# Altium footprint library 2019-10-24_23-28-57.PcbLib: 1 footprints
Each footprint in its own frame and in the unit in brackets; x right, y up, seen from the top. Pads: shape width x height; smd on the part's side, far side on the other; paste and mask are expansions set on the pad; w line width, h text height; cw(c..) or ccw(c..) is an arc to the next point about the centre after c.
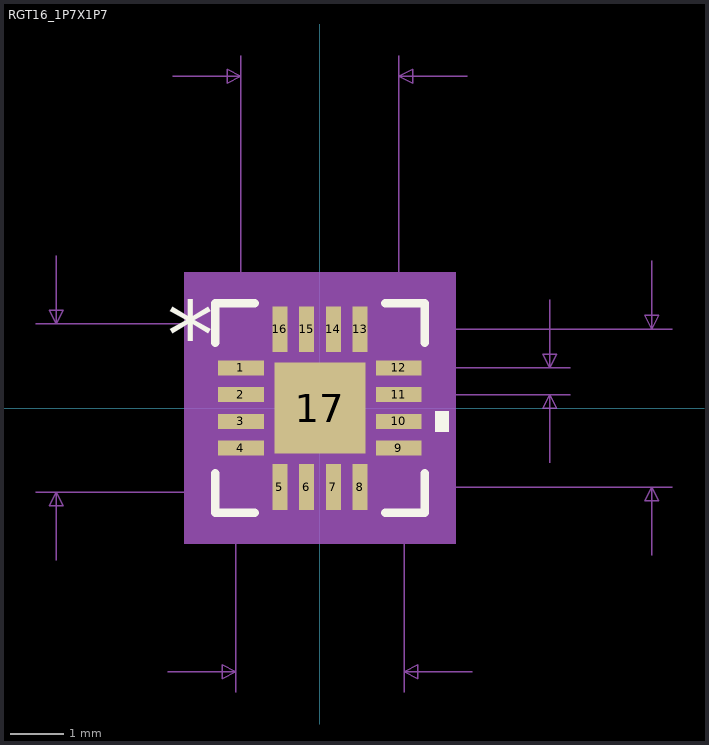
[diagram p0: the footprint, top view; thin cyan lines are the x and y axes]

## RGT16_1P7X1P7 [mm]
pads (17):
  rect 0.85x0.28 smd paste-0.14 mask+0: 1(-1.475,0.75) 2(-1.475,0.25) 3(-1.475,-0.25) 4(-1.475,-0.75) 9(1.475,-0.75) 10(1.475,-0.25) 11(1.475,0.25) 12(1.475,0.75)
  rect 0.28x0.85 smd paste-0.14 mask+0: 5(-0.75,-1.475) 6(-0.25,-1.475) 7(0.25,-1.475) 8(0.75,-1.475) 13(0.75,1.475) 14(0.25,1.475) 15(-0.25,1.475) 16(-0.75,1.475)
  rect 1.7x1.7 smd paste-0.837 mask-0.838: 17(0,0)
Top Overlay:
  region: 2.154,-0.059 2.408,-0.059 2.408,-0.44 2.154,-0.44
  lines w0.152: -1.956,-1.218 -1.956,-1.956 -1.218,-1.956 ; -1.956,1.218 -1.956,1.956 -1.218,1.956 ; 1.218,-1.956 1.956,-1.956 1.956,-1.218 ; 1.218,1.956 1.956,1.956 1.956,1.218
  text "*" at -2.852,0.746 h1.27
Top Paste:
  region: -1.075,0.865 -1.875,0.865 -1.875,0.635 -1.075,0.635
  region: -1.075,0.365 -1.875,0.365 -1.875,0.135 -1.075,0.135
  region: -1.075,-0.135 -1.875,-0.135 -1.875,-0.365 -1.075,-0.365
  region: -1.075,-0.635 -1.875,-0.635 -1.875,-0.865 -1.075,-0.865
  region: -0.635,-1.075 -0.865,-1.075 -0.865,-1.875 -0.635,-1.875
  region: -0.135,-1.075 -0.365,-1.075 -0.365,-1.875 -0.135,-1.875
  region: 0.365,-1.075 0.135,-1.075 0.135,-1.875 0.365,-1.875
  region: 0.865,-1.075 0.635,-1.075 0.635,-1.875 0.865,-1.875
  region: 1.875,-0.635 1.075,-0.635 1.075,-0.865 1.875,-0.865
  region: 1.875,-0.135 1.075,-0.135 1.075,-0.365 1.875,-0.365
  region: 1.875,0.365 1.075,0.365 1.075,0.135 1.875,0.135
  region: 1.875,0.865 1.075,0.865 1.075,0.635 1.875,0.635
  region: 0.865,1.875 0.635,1.875 0.635,1.075 0.865,1.075
  region: 0.365,1.875 0.135,1.875 0.135,1.075 0.365,1.075
  region: -0.135,1.875 -0.365,1.875 -0.365,1.075 -0.135,1.075
  region: -0.635,1.875 -0.865,1.875 -0.865,1.075 -0.635,1.075
  region: -0.494,0.775 -0.775,0.775 -0.775,0.494 -0.635,0.494 -0.494,0.635
  region: -0.635,0.294 -0.775,0.294 -0.775,-0.294 -0.635,-0.294 -0.494,-0.152 -0.494,0.152
  region: -0.635,-0.494 -0.775,-0.494 -0.775,-0.775 -0.494,-0.775 -0.494,-0.635
  region: 0.294,0.775 -0.294,0.775 -0.294,0.635 -0.152,0.494 0.152,0.494 0.294,0.635
  region: 0.152,0.294 -0.152,0.294 -0.294,0.152 -0.294,-0.152 -0.152,-0.294 0.152,-0.294 0.294,-0.152 0.294,0.152
  region: 0.152,-0.494 -0.152,-0.494 -0.294,-0.635 -0.294,-0.775 0.294,-0.775 0.294,-0.635
  region: 0.775,0.775 0.494,0.775 0.494,0.635 0.635,0.494 0.775,0.494
  region: 0.775,0.294 0.635,0.294 0.494,0.152 0.494,-0.152 0.635,-0.294 0.775,-0.294
  region: 0.775,-0.494 0.635,-0.494 0.494,-0.635 0.494,-0.775 0.775,-0.775
Top Solder:
  region: -0.98,0.96 -1.97,0.96 -1.97,0.54 -0.98,0.54
  region: -0.98,0.46 -1.97,0.46 -1.97,0.04 -0.98,0.04
  region: -0.98,-0.04 -1.97,-0.04 -1.97,-0.46 -0.98,-0.46
  region: -0.98,-0.54 -1.97,-0.54 -1.97,-0.96 -0.98,-0.96
  region: -0.541,-0.98 -0.96,-0.98 -0.96,-1.97 -0.541,-1.97
  region: -0.04,-0.98 -0.46,-0.98 -0.46,-1.97 -0.04,-1.97
  region: 0.46,-0.98 0.04,-0.98 0.04,-1.97 0.46,-1.97
  region: 0.96,-0.98 0.541,-0.98 0.541,-1.97 0.96,-1.97
  region: 1.97,-0.54 0.98,-0.54 0.98,-0.96 1.97,-0.96
  region: 1.97,-0.04 0.98,-0.04 0.98,-0.46 1.97,-0.46
  region: 1.97,0.46 0.98,0.46 0.98,0.04 1.97,0.04
  region: 1.97,0.96 0.98,0.96 0.98,0.54 1.97,0.54
  region: 0.96,1.97 0.541,1.97 0.541,0.98 0.96,0.98
  region: 0.46,1.97 0.04,1.97 0.04,0.98 0.46,0.98
  region: -0.04,1.97 -0.46,1.97 -0.46,0.98 -0.04,0.98
  region: -0.541,1.97 -0.96,1.97 -0.96,0.98 -0.541,0.98
  region: -0.914,0.594 -0.914,0.914 0.914,0.914 0.914,0.594
  region: -0.914,-0.194 -0.914,0.194 0.914,0.194 0.914,-0.194
  region: -0.914,-0.914 -0.914,-0.594 0.914,-0.594 0.914,-0.914
  region: -0.914,-0.914 -0.914,0.914 -0.594,0.914 -0.594,-0.914
  region: 0.194,-0.914 0.194,0.914 -0.194,0.914 -0.194,-0.914
  region: 0.594,-0.914 0.594,0.914 0.914,0.914 0.914,-0.914
Mechanical 5:
  region: 2.535,-2.535 -2.535,-2.535 -2.535,2.535 2.535,2.535
Mechanical 7:
  lines w0.025: -5.306,-1.575 1.575,-1.575 ; -5.306,1.575 1.575,1.575 1.575,-5.306 ; -4.925,-2.845 -4.925,-1.575 ; -4.925,2.845 -4.925,1.575 ; -2.845,-4.925 -1.575,-4.925 ; -2.745,6.195 -1.475,6.195 ; -1.575,-5.306 -1.575,1.575 ; -1.475,0.75 -1.475,6.576 ; 0.75,-1.475 6.576,-1.475 ; 0.75,1.475 6.576,1.475 ; 1.475,0.25 4.671,0.25 ; 1.475,6.576 1.475,0.75 4.671,0.75 ; 2.745,6.195 1.475,6.195 ; 2.845,-4.925 1.575,-4.925 ; 4.29,-1.02 4.29,0.25 ; 4.29,2.02 4.29,0.75 ; 6.195,-2.745 6.195,-1.475 ; 6.195,2.745 6.195,1.475 ; -4.925,-1.575 -5.052,-1.829 -4.798,-1.829 -4.925,-1.575 ; -4.925,1.575 -5.052,1.829 -4.798,1.829 -4.925,1.575 ; -1.575,-4.925 -1.829,-4.798 -1.829,-5.052 -1.575,-4.925 ; -1.475,6.195 -1.729,6.322 -1.729,6.068 -1.475,6.195 ; 1.475,6.195 1.729,6.322 1.729,6.068 1.475,6.195 ; 1.575,-4.925 1.829,-4.798 1.829,-5.052 1.575,-4.925 ; 4.29,0.25 4.163,-0.004 4.417,-0.004 4.29,0.25 ; 4.29,0.75 4.163,1.004 4.417,1.004 4.29,0.75 ; 6.195,-1.475 6.068,-1.729 6.322,-1.729 6.195,-1.475 ; 6.195,1.475 6.068,1.729 6.322,1.729 6.195,1.475
  text "Default Padstyle: RX11p02Y33p46D0T" at -10.795,-8.1 h1.27
  text "Heat Tab Padstyle: RX66p93Y66p93D0T" at -11.112,-9.624 h1.27
  text "Via Padstyle: EX20Y20D10P" at -7.938,-11.148 h1.27
  text "Alt 1 Padstyle: OX60Y90D30P" at -8.572,-12.672 h1.27
  text "Alt 2 Padstyle: OX90Y60D30P" at -8.572,-14.196 h1.27
  text "0.02in/0.5mm" at 4.798,0.182 h0.64
  text "0.116in/2.95mm" at -2.222,6.703 h0.64
  text "0.116in/2.95mm" at 6.703,-0.318 h0.64
  text "0.124in/3.15mm" at -9.878,-0.318 h0.64
  text "0.124in/3.15mm" at -2.222,-6.068 h0.64
Mechanical 13:
  lines w0.025: -1.575,0.305 -0.305,1.575 ; -1.575,-1.575 1.575,-1.575 1.575,1.575 -1.575,1.575 -1.575,-1.575
  text "*" at -1.114,0.365 h1.27
Mechanical 15:
  region: -1.144,-1.829 -1.829,-1.829 -1.829,-1.144 -2.154,-1.144 -2.154,1.144 -1.829,1.144 -1.829,1.829 -1.144,1.829 -1.144,2.154 1.144,2.154 1.144,1.829 1.829,1.829 1.829,1.144 2.154,1.144 2.154,-1.144 1.829,-1.144 1.829,-1.829 1.144,-1.829 1.144,-2.154 -1.144,-2.154
  lines w0.152: -2.154,-1.144 -1.829,-1.144 -1.829,-1.829 -1.144,-1.829 -1.144,-2.154 1.144,-2.154 1.144,-1.829 1.829,-1.829 1.829,-1.144 2.154,-1.144 2.154,1.144 1.829,1.144 1.829,1.829 1.144,1.829 1.144,2.154 -1.144,2.154 -1.144,1.829 -1.829,1.829 -1.829,1.144 -2.154,1.144 -2.154,-1.144
Mechanical 16:
  circle w0.127: c-0.394,-0.394 r0.191
  circle w0.127: c-0.394,0.394 r0.191
  circle w0.127: c0.394,-0.394 r0.191
  circle w0.127: c0.394,0.394 r0.191
3D body: height 0.25, standoff 0, extent 0,0 0.254,0.254